# Altium schematic symbol library DIODE,TVS,5V,SMA.Schlib: 1 symbol
Pins are listed as number, name and electrical type; pins without a type are passive.

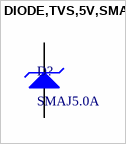
[diagram p0: symbol DIODE,TVS,5V,SMA]

## DIODE,TVS,5V,SMA
designator D?, comment SMAJ5.0A
9.2V Clamp 43.5A Ipp Tvs Diode Surface Mount DO-214AC (SMA)
pins: 1 K, 2 A